# Altium schematic symbol library OnlabComponents.SchLib: 14 symbols
Pins are listed as number, name and electrical type; pins without a type are passive.

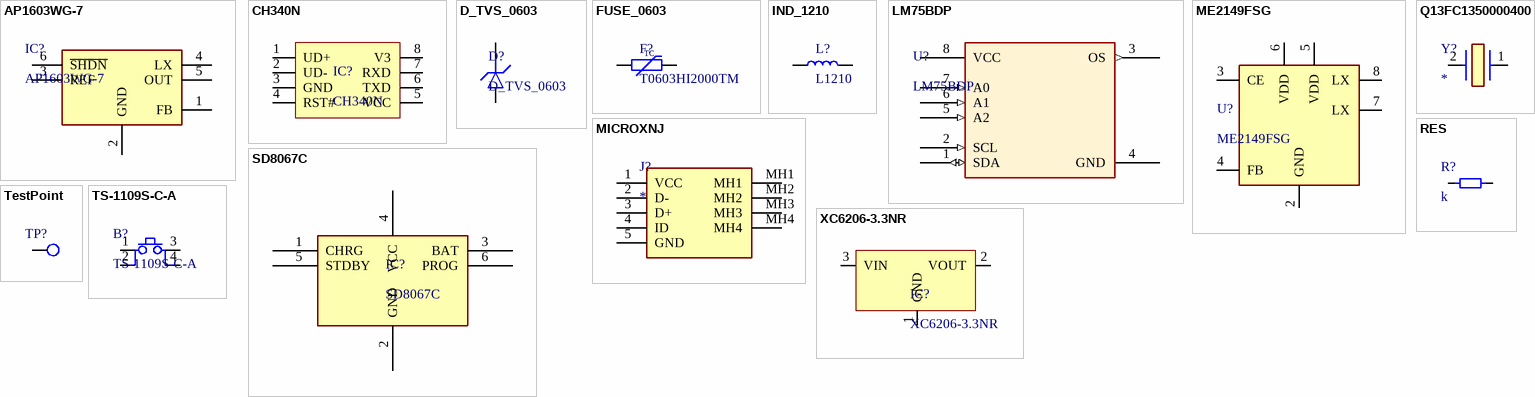
[diagram p0: symbols AP1603WG-7 to XC6206-3.3NR]

## AP1603WG-7
designator IC?
Integrated Circuit, Step Up Converter (to 5V 3.3V or adjust); Manufacturer_Name: Diodes Inc.; Datasheet Link: https://datasheet.datasheetarchive.com/originals/distributors/DKDS42/DSANUWW0043243.pdf; Height: 1.4mm; Manufacturer_Part_Number: AP1603WG-7; Mouser Part Number: 621-AP1603WG-7; Mouser Price/Stock: https://www.mouser.co.uk/ProductDetail/Diodes-Incorporated/AP1603WG-7?qs=dZoB6MK9LKOqh%252B6a7i8BqA%3D%3D; Arrow Part Number: AP1603WG-7; Arrow Price/Stock: https://www.arrow.com/en/products/ap1603wg-7/diodes-incorporated?region=nac
footprint SOT95P285X140-6N
pins: 1 FB, 2 GND, 3 REF, 4 LX, 5 OUT, 6 ~{SHDN}

## CH340N
designator IC?
USB to UART integrated circuit; Manufacturer: WCH; Manufacturer part number: CH340N; Datasheet: https://datasheet.lcsc.com/lcsc/2202231130_WCH-Jiangsu-Qin-Heng-CH340N_C2977777.pdf
footprint SOP127P600X190-8N (SOP, 8-Leads, Body 5,15x4,45mm, Pitch 1,27mm, IPC Medium Density)
pins: 1 UD+, 2 UD-, 3 GND, 4 RST#, 5 VCC, 6 TXD, 7 RXD, 8 V3

## D_TVS_0603
designator D?
Diode TVS / ESD 0603
footprint DIOM2718X14N (Molded Diode, 2-Leads, Body 2,70x1,80mm, IPC Medium Density)
pins: 1 K, 2 A

## FUSE_0603
designator F?, comment T0603HI2000TM
Fuse SMD 0603; Manufacturer: AEM; Manufacturer Part Number: T0603HI2000TM; DataSheet: https://datasheet.lcsc.com/lcsc/1811151158_AEM-T0603HI2000TM_C311070.pdf
footprint RESC1608X06N (Chip Resistor, 2-Leads, Body 1,60x0,80mm, IPC Medium Density)
pins: 1, 2
text: TC

## IND_1210
designator L?, comment L1210
Inductor SMD 1210
footprint IND_1210
pins: 1, 2

## LM75BDP
designator U?
No Description Available; Mfr_Name: NXP; Copyright: Copyright (C) 2022 Ultra Librarian. All rights reserved.; Manufacturer_Part_Number: LM75BDP; RefDes: RefDes; Type: DEV
footprint TSSOP8_3P1X3P1_NXP
footprint TSSOP8_3P1X3P1_NXP-L
footprint TSSOP8_3P1X3P1_NXP-M
pins: 1 SDA (io), 2 SCL (in), 3 OS (out), 4 GND (power), 5 A2 (in), 6 A1 (in), 7 A0 (in), 8 VCC (power)

## ME2149FSG
designator U?
Step up with 1A; Manufacurer: MICRONE(Nanjing Micro One Elec); Manufacurer Part Number: ME2149FSG; Datasheet: https://datasheet.lcsc.com/lcsc/1810081413_MICRONE-Nanjing-Micro-One-Elec-ME2149FSG_C236784.pdf
footprint SOP127P600X190-8N (SOP, 8-Leads, Body 5,15x4,45mm, Pitch 1,27mm, IPC Medium Density)
pins: 2 GND, 3 CE, 4 FB, 5 VDD, 6 VDD, 7 LX, 8 LX

## MICROXNJ
designator J?
Connector; Manufacturer_Name: Shou Han; Manufacturer_Part_Number: MICROXNJ; Datasheet Link: https://datasheet.lcsc.com/szlcsc/1912111437_SHOU-HAN-MicroXNJ_C404969.pdf; Height: 2.425mm
footprint MICROXNJ
pins: 1 VCC, 2 D-, 3 D+, 4 ID, 5 GND, MH1, MH2, MH3, MH4

## Q13FC1350000400
designator Y?
Crystal or Oscillator; Manufacturer_Name: Seiko Instruments Inc.; Manufacturer_Part_Number: Q13FC1350000400; Datasheet Link: https://datasheet.lcsc.com/szlcsc/1901081604_Seiko-Epson-Q13FC1350000400_C32346.pdf; Height: 0.9mm
footprint Q13FC1350000400
pins: 1, 2 CRYSTAL_2

## RES
designator R?, comment k
footprint RESC1608X06N (Chip Resistor, 2-Leads, Body 1,60x0,80mm, IPC Medium Density)
pins: 1 PROG, 2 PROG

## SD8067C
designator IC?
Integrated Circuit, charging circuit; Manufacturer: Shouding; Manufacturer Part Number: SD8067C
footprint SOT95P280X125-6N (SOT23, 6-Leads, Body 2,92x2,80mm, Pitch 0,95mm, IPC Medium Density)
pins: 1 CHRG, 2 GND, 3 BAT, 4 VCC, 5 STDBY, 6 PROG

## TestPoint
designator TP?  (value not drawn)
footprint SolderingPad
pins: 1 PROG

## TS-1109S-C-A
designator B?
Basic SMD button; Manufacturer: XKB Connectivity; Manufacturer Part Number: TS-1109S-C-A; Datasheet: https://datasheet.lcsc.com/lcsc/2110151730_XKB-Connectivity-TS-1109S-C-A_C397346.pdf
footprint SMD_Button
pins: 1, 2, 3, 4

## XC6206-3.3NR
designator IC?
Integrated Circuit, LDO Low Power 300mA; Manufacturer: HX(hengjiaxing); Manufacturer Part Number: XC6206-3.3NR; Datasheet: https://datasheet.lcsc.com/lcsc/2203281730_HX-hengjiaxing-XC6206-3-3NR_C2984874.pdf
footprint SOT95P240X115-3N (SOT23, 3-Leads, Body 2,90x2,40mm, Pitch 0,95mm, IPC Medium Density)
pins: 1 GND, 2 VOUT, 3 VIN